# EAGLE library part M-064321 (library con-WuP)
12 pol. male SMC CONNECTOR vertical , type Q, low profile Source: http://www.erni.com/DB/PDF-Drawing/SMC/064321.pdf
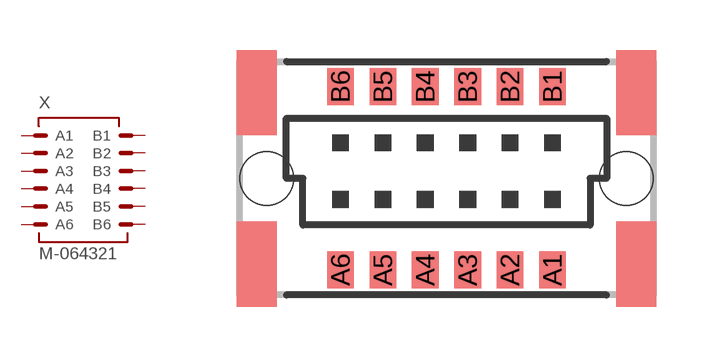
[diagram p0: symbol with the pads of M-064321; footprint M-064321]

Designator prefix X

## M-064321 (OC_FARNELL: unknown; OC_NEWARK: unknown)  [M-064321]
A1  A1  pas
A2  A2  pas
A3  A3  pas
A4  A4  pas
A5  A5  pas
A6  A6  pas
B1  B1  pas
B2  B2  pas
B3  B3  pas
B4  B4  pas
B5  B5  pas
B6  B6  pas

## Footprint M-064321 (pad centres in mm)
12 pol. male SMC CONNECTOR vertical , type Q, low profile Source: http://www.erni.com/DB/PDF-Drawing/SMC/064321.pdf
smd 0.8 x 1.1: A1 3.175,-2.75; A2 1.905,-2.75; A3 0.635,-2.75; A4 -0.635,-2.75; A5 -1.905,-2.75; A6 -3.175,-2.75; B1 3.175,2.75; B2 1.905,2.75; B3 0.635,2.75; B4 -0.635,2.75; B5 -1.905,2.75; B6 -3.175,2.75
hole 1.6 at 5.385,0
hole 1.6 at -5.385,0